# Altium schematic symbol library self_custom_etb_driver.SCHLIB: 2 symbols
Pins are listed as number, name and electrical type; pins without a type are passive.

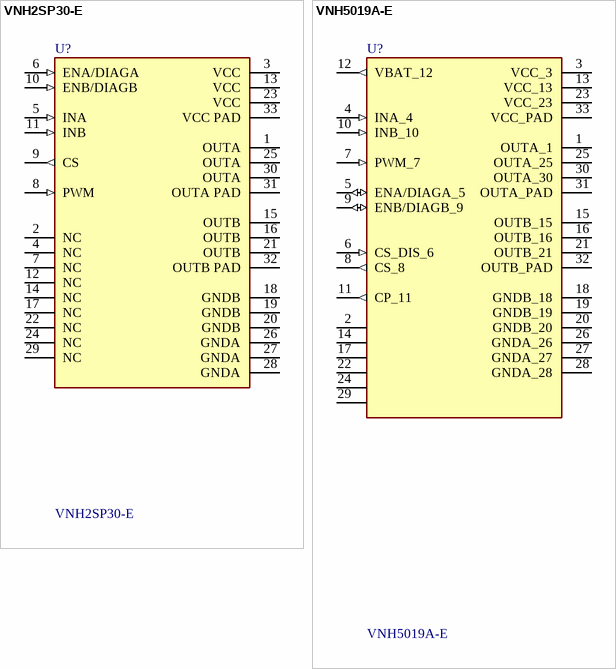
[diagram p0: symbols VNH2SP30-E to VNH5019A-E]

## VNH2SP30-E
designator U?
IC MOTOR DRIVER PAR 30MULTIPWRSO; Manufacturer: STMicroelectronics; Voltage: 16V; Mfg Package Ident: MultiPowerSO-30; helpURL: https://upverter.com/upn/revision/311e1642ff6559a6/; ComponentLink2Description: Datasheet; Temperature: -40°C to +150°C; Package: MultiPowerSO-30; Supplier 2: Mouser; Supplier 1: Digi-Key; ComponentLink1URL: https://upverter.com/upn/revision/311e1642ff6559a6/; Supplier Part Number 2: 511-VNH2SP30-E; Supplier Part Number 1: 497-4500-5-ND; ComponentLink1Description: Upverter; ComponentLink2URL: http://www.st.com/content/ccc/resource/technical/document/datasheet/group2/66/b8/f5/2c/9a/66/41/c7/CD00043711/files/CD00043711.pdf/jcr:content/translations/en.CD00043711.pdf; RoHS: TRUE; Mouser Part Number: 511-VNH2SP30-E; Temperature Range High: +150°C; Digikey Description: IC MOTOR DRIVER PAR 30MULTIPWRSO; Digikey Part Number: 497-4500-5-ND; Lead Free: yes; Temperature Range Low: -40°C
footprint STMicroelectronics_MultiPowerSO-30_0
pins: 1 OUTA (power), 2 NC (hiz), 3 VCC (power), 4 NC (hiz), 5 INA (in), 6 ENA/DIAGA (in), 7 NC (hiz), 8 PWM (in), 9 CS (out), 10 ENB/DIAGB (in), 11 INB (in), 12 NC (hiz), 13 VCC (power), 14 NC (hiz), 15 OUTB (power), 16 OUTB (power), 17 NC (hiz), 18 GNDB (power), 19 GNDB (power), 20 GNDB (power), 21 OUTB (power), 22 NC (hiz), 23 VCC (power), 24 NC (hiz), 25 OUTA (power), 26 GNDA (power), 27 GNDA (power), 28 GNDA (power), 29 NC (hiz), 30 OUTA (power), 31 OUTA PAD (power), 32 OUTB PAD (power), 33 VCC PAD (power)

## VNH5019A-E
designator U?
Motor Driver Power MOSFET Parallel, PWM MultiPowerSO-30; MF: STMicroelectronics; Value: *; Availability: Unavailable; MP: VNH5019A-E; Price: None; Package: PowerSOP-30 STMicroelectronics; SnapEDA_Link: https://www.snapeda.com/parts/VNH5019A-E/STMicroelectronics/view-part/231156/?ref=snap
footprint IC_MULTIPOWERSO-30TR
pins: 1 OUTA_1 (power), 2 N.C._2 (hiz), 3 VCC_3 (power), 4 INA_4 (in), 5 ENA/DIAGA_5 (io), 6 CS_DIS_6 (in), 7 PWM_7 (in), 8 CS_8 (out), 9 ENB/DIAGB_9 (io), 10 INB_10 (in), 11 CP_11 (out), 12 VBAT_12 (out), 13 VCC_13 (power), 14 NC_14 (hiz), 15 OUTB_15 (power), 16 OUTB_16 (power), 17 NC_17 (hiz), 18 GNDB_18 (power), 19 GNDB_19 (power), 20 GNDB_20 (power), 21 OUTB_21 (power), 22 NC_22 (hiz), 23 VCC_23 (power), 24 NC_24 (hiz), 25 OUTA_25 (power), 26 GNDA_26 (power), 27 GNDA_27 (power), 28 GNDA_28 (power), 29 N.C._29 (hiz), 30 OUTA_30 (power), 31 OUTA_PAD (power), 32 OUTB_PAD (power), 33 VCC_PAD (power)